# Altium integrated library Orcad Libraries.IntLib: 1 symbol
Pins are listed as number, name and electrical type; pins without a type are passive.

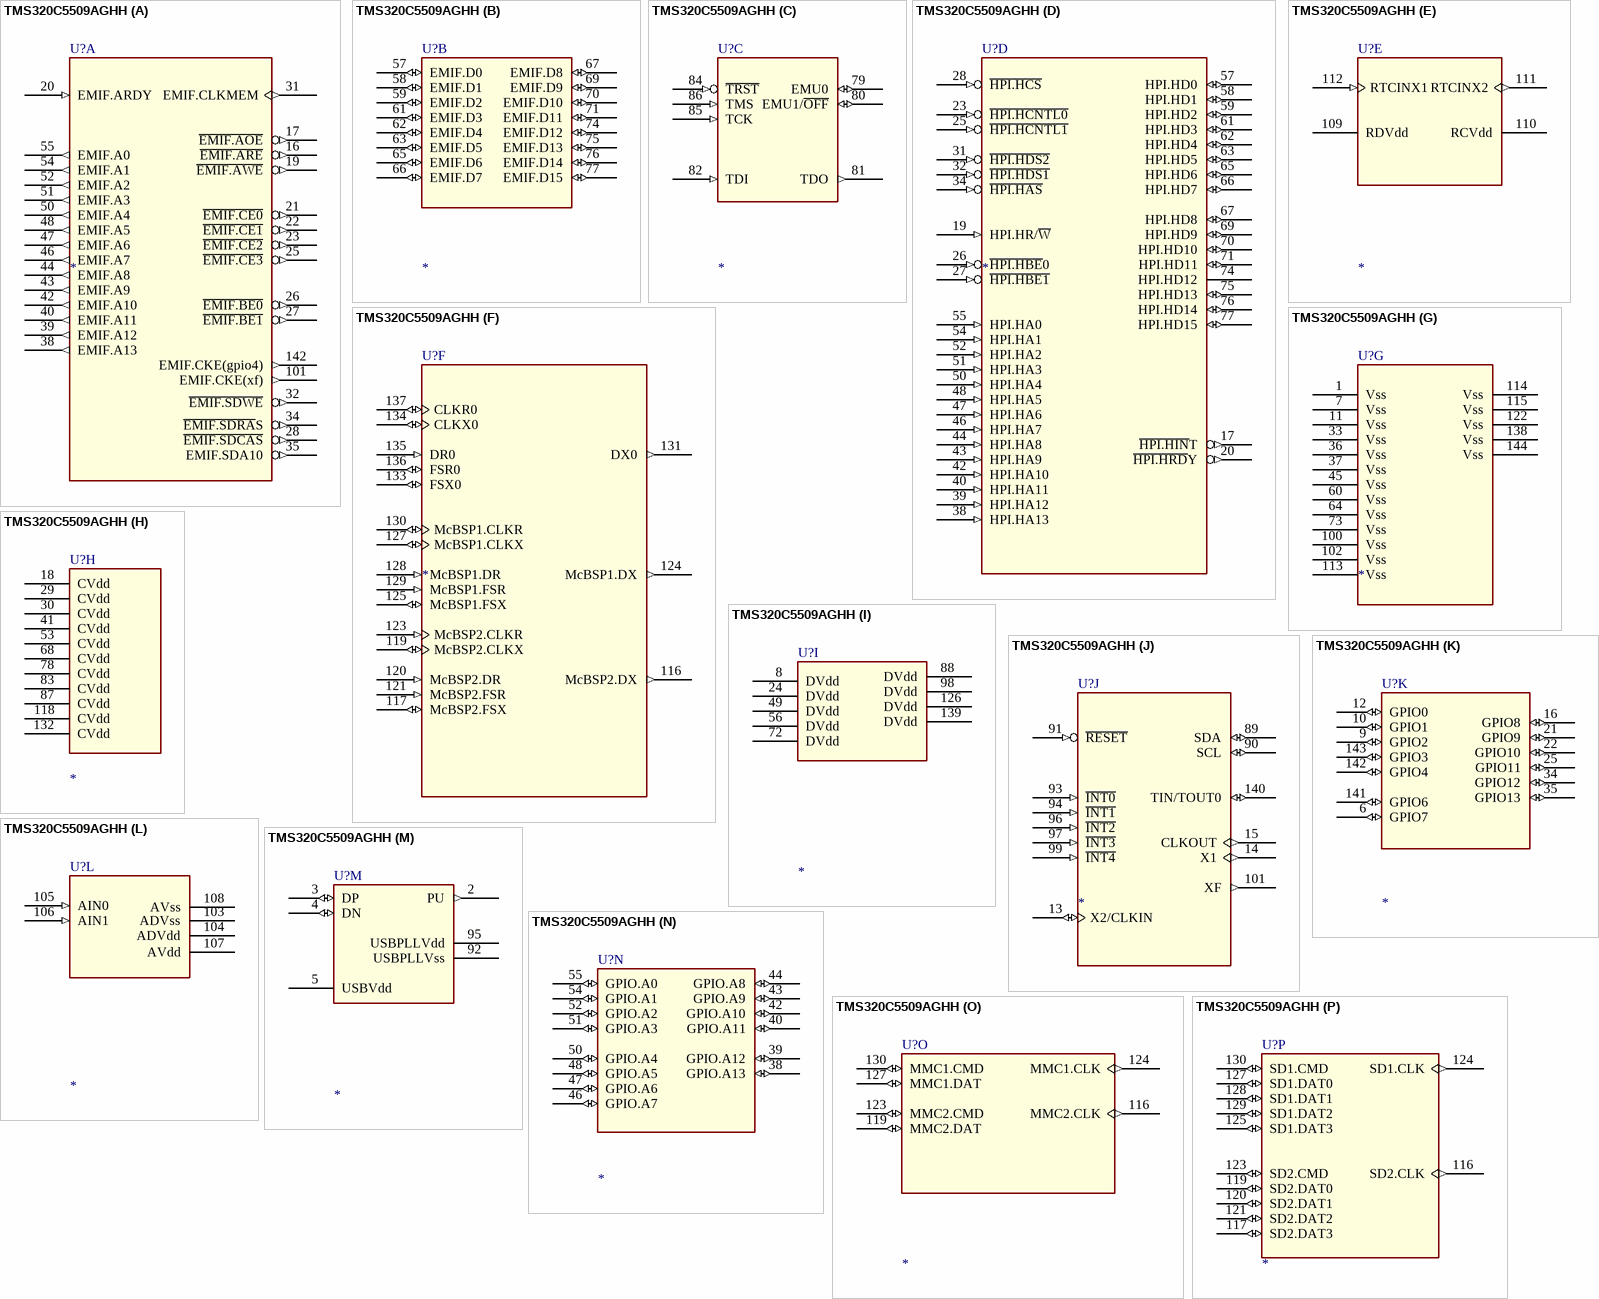
[diagram p0: symbol TMS320C5509AGHH]

## TMS320C5509AGHH
designator U?
footprint GLZ 532 pin PBGA
part A pins: 16 ~{EMIF.ARE} (out), 17 ~{EMIF.AOE} (out), 19 ~{EMIF.AWE} (out), 20 EMIF.ARDY (in), 21 ~{EMIF.CE0} (out), 22 ~{EMIF.CE1} (out), 23 ~{EMIF.CE2} (out), 25 ~{EMIF.CE3} (out), 26 ~{EMIF.BE0} (out), 27 ~{EMIF.BE1} (out), 28 ~{EMIF.SDCAS} (out), 31 EMIF.CLKMEM (out), 32 ~{EMIF.SDWE} (out), 34 ~{EMIF.SDRA}S (out), 35 EMIF.SDA10 (out), 38 EMIF.A13 (out), 39 EMIF.A12 (out), 40 EMIF.A11 (out), 42 EMIF.A10 (out), 43 EMIF.A9 (out), 44 EMIF.A8 (out), 46 EMIF.A7 (out), 47 EMIF.A6 (out), 48 EMIF.A5 (out), 50 EMIF.A4 (out), 51 EMIF.A3 (out), 52 EMIF.A2 (out), 54 EMIF.A1 (out), 55 EMIF.A0 (out), 101 EMIF.CKE(xf) (out), 142 EMIF.CKE(gpio4) (out)
part B pins: 57 EMIF.D0 (io), 58 EMIF.D1 (io), 59 EMIF.D2 (io), 61 EMIF.D3 (io), 62 EMIF.D4 (io), 63 EMIF.D5 (io), 65 EMIF.D6 (io), 66 EMIF.D7 (io), 67 EMIF.D8 (io), 69 EMIF.D9 (io), 70 EMIF.D10 (io), 71 EMIF.D11 (io), 74 EMIF.D12 (io), 75 EMIF.D13 (io), 76 EMIF.D14 (io), 77 EMIF.D15 (io)
part C pins: 79 EMU0 (io), 80 EMU1/~{OFF} (io), 81 TDO (out), 82 TDI (in), 84 ~{TRST} (in), 85 TCK (in), 86 TMS (in)
part D pins: 17 ~{HPI.HIN}T (out), 19 HPI.HR/~{W} (in), 20 ~{HPI.HRD}Y (out), 23 ~{HPI.HCNTL0} (in), 25 ~{HPI.HCNTL1} (in), 26 ~{HPI.HBE}0 (in), 27 ~{HPI.HBE1} (in), 28 ~{HPI.HCS} (in), 31 ~{HPI.HDS2} (in), 32 ~{HPI.HDS1} (in), 34 ~{HPI.HAS} (in), 38 HPI.HA13 (in), 39 HPI.HA12 (in), 40 HPI.HA11 (in), 42 HPI.HA10 (in), 43 HPI.HA9 (in), 44 HPI.HA8 (in), 46 HPI.HA7 (in), 47 HPI.HA6 (in), 48 HPI.HA5 (in), 50 HPI.HA4 (in), 51 HPI.HA3 (in), 52 HPI.HA2 (in), 54 HPI.HA1 (in), 55 HPI.HA0 (in), 57 HPI.HD0 (io), 58 HPI.HD1 (io), 59 HPI.HD2 (io), 61 HPI.HD3 (io), 62 HPI.HD4 (io), 63 HPI.HD5 (io), 65 HPI.HD6 (io), 66 HPI.HD7 (io), 67 HPI.HD8 (io), 69 HPI.HD9 (io), 70 HPI.HD10 (io), 71 HPI.HD11 (io), 74 HPI.HD12, 75 HPI.HD13 (io), 76 HPI.HD14 (io), 77 HPI.HD15 (io)
part E pins: 109 RDVdd (power), 110 RCVdd (power), 111 RTCINX2 (out), 112 RTCINX1 (in)
part F pins: 116 McBSP2.DX (out), 117 McBSP2.FSX (io), 119 McBSP2.CLKX (io), 120 McBSP2.DR (in), 121 McBSP2.FSR (in), 123 McBSP2.CLKR (in), 124 McBSP1.DX (out), 125 McBSP1.FSX (io), 127 McBSP1.CLKX (io), 128 McBSP1.DR (in), 129 McBSP1.FSR (in), 130 McBSP1.CLKR (io), 131 DX0 (out), 133 FSX0 (io), 134 CLKX0 (io), 135 DR0 (in), 136 FSR0 (io), 137 CLKR0 (io)
part G pins: 1 Vss (power), 7 Vss (power), 11 Vss (power), 33 Vss (power), 36 Vss (power), 37 Vss (power), 45 Vss (power), 60 Vss (power), 64 Vss (power), 73 Vss (power), 100 Vss (power), 102 Vss (power), 113 Vss (power), 114 Vss (power), 115 Vss (power), 122 Vss (power), 138 Vss (power), 144 Vss (power)
part H pins: 18 CVdd (power), 29 CVdd (power), 30 CVdd (power), 41 CVdd (power), 53 CVdd (power), 68 CVdd (power), 78 CVdd (power), 83 CVdd (power), 87 CVdd (power), 118 CVdd (power), 132 CVdd (power)
part I pins: 8 DVdd (power), 24 DVdd (power), 49 DVdd (power), 56 DVdd (power), 72 DVdd (power), 88 DVdd (power), 98 DVdd (power), 126 DVdd (power), 139 DVdd (power)
part J pins: 13 X2/CLKIN (io), 14 X1 (out), 15 CLKOUT (out), 89 SDA (io), 90 SCL (io), 91 ~{RESET} (in), 93 ~{INT0} (in), 94 ~{INT1} (in), 96 ~{INT2} (in), 97 ~{INT3} (in), 99 ~{INT4} (in), 101 XF (out), 140 TIN/TOUT0 (io)
part K pins: 6 GPIO7 (io), 9 GPIO2 (io), 10 GPIO1 (io), 12 GPIO0 (io), 16 GPIO8 (io), 21 GPIO9 (io), 22 GPIO10 (io), 25 GPIO11 (io), 34 GPIO12 (io), 35 GPIO13 (io), 141 GPIO6 (io), 142 GPIO4 (io), 143 GPIO3 (io)
part L pins: 103 ADVss (power), 104 ADVdd (power), 105 AIN0 (in), 106 AIN1 (in), 107 AVdd (power), 108 AVss (power)
part M pins: 2 PU (out), 3 DP (io), 4 DN (io), 5 USBVdd (power), 92 USBPLLVss (power), 95 USBPLLVdd (power)
part N pins: 38 GPIO.A13 (io), 39 GPIO.A12 (io), 40 GPIO.A11 (io), 42 GPIO.A10 (io), 43 GPIO.A9 (io), 44 GPIO.A8 (io), 46 GPIO.A7 (io), 47 GPIO.A6 (io), 48 GPIO.A5 (io), 50 GPIO.A4 (io), 51 GPIO.A3 (io), 52 GPIO.A2 (io), 54 GPIO.A1 (io), 55 GPIO.A0 (io)
part O pins: 116 MMC2.CLK (out), 119 MMC2.DAT (io), 123 MMC2.CMD (io), 124 MMC1.CLK (out), 127 MMC1.DAT (io), 130 MMC1.CMD (io)
part P pins: 116 SD2.CLK (out), 117 SD2.DAT3 (io), 119 SD2.DAT0 (io), 120 SD2.DAT1 (io), 121 SD2.DAT2 (io), 123 SD2.CMD (io), 124 SD1.CLK (out), 125 SD1.DAT3 (io), 127 SD1.DAT0 (io), 128 SD1.DAT1 (io), 129 SD1.DAT2 (io), 130 SD1.CMD (io)